# Altium schematic symbol library SchLib1.SchLib: 1 symbol
Pins are listed as number, name and electrical type; pins without a type are passive.

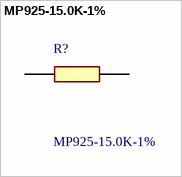
[diagram p0: symbol MP925-15.0K-1%]

## MP925-15.0K-1%
designator R?
Thick Film Resistors - Through Hole 15K ohm 25W 1% TO-220 PKG PWR FILM; Manufacturer_Name: Caddock; Geometry.Height: 3.44mm; Mouser Part Number: 684-MP925-15K; Mouser Price/Stock: https://www.mouser.co.uk/ProductDetail/Caddock/MP925-15.0K-1?qs=3xGhc7tteJWFgUsHgFGqHw%3D%3D; Manufacturer_Part_Number: MP925-15.0K-1%; Datasheet Link: http://www.caddock.com/Online_catalog/Mrktg_Lit/MP9000_Series.pdf; Supplier 1: Digikey; Supplier Part Number 1: MP925-15.0KF-ND
footprint TO508P344X1041X2058-2P
pins: 1, 2